# EAGLE library part 6871XX14522_68714414522 (library 68611414422)
WR-FPC 0.50 mm SMT ZIF Horizontal Bottom Contact KIND PROPERTIES Pitch 0.5 mm MATERIAL PROPERTIES Insulator Material LCP Contact Material Phosphor Bronze Contact Plating 100 (µ") Tin over 50 (µ") Nickel Contact Type Stamped Solder Tabs Brass <https://www.we-online.com/catalog/media/o32870v209%20Family_WR-FPC_6871xx14522.jpg> Details see: https://www.we-online.com/catalog/en/FPC_0_5_SMT_ZIF_HORIZONTAL_BOTTOM_CONTACT_6871XX14522/ Updated by Ella Wu 2020-08-26 2020(C) Wurth Elektronik
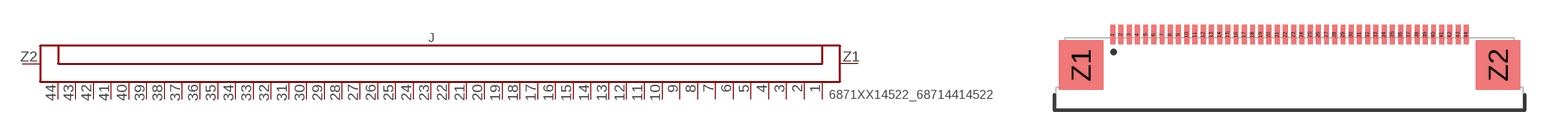
[diagram p30: symbol with the pads of 68714414522; footprint 68714414522]

Designator prefix J

## 6871XX14522_68714414522 (CONTACT-RESISTANCE: 20mOhm; DATASHEET-URL: https://www.we-online.com/catalog/datasheet/68714414522.pdf; IR: 0.5A; L: 28.4mm; PACKAGING: Tape and Reel; PART-NUMBER: 68714414522; PINS: 44; PITCH: 0.5mm; TYPE: Horizontal; VALUE: 68714414522; WORKING-VOLTAGE: 50V(AC))  [68714414522]
1  1  pas
2  2  pas
3  3  pas
4  4  pas
5  5  pas
6  6  pas
7  7  pas
8  8  pas
9  9  pas
10  10  pas
11  11  pas
12  12  pas
13  13  pas
14  14  pas
15  15  pas
16  16  pas
17  17  pas
18  18  pas
19  19  pas
20  20  pas
21  21  pas
22  22  pas
23  23  pas
24  24  pas
25  25  pas
26  26  pas
27  27  pas
28  28  pas
29  29  pas
30  30  pas
31  31  pas
32  32  pas
33  33  pas
34  34  pas
35  35  pas
36  36  pas
37  37  pas
38  38  pas
39  39  pas
40  40  pas
41  41  pas
42  42  pas
43  43  pas
44  44  pas
Z1  Z1  pas
Z2  Z2  pas

## Footprint 68714414522 (pad centres in mm)
WR-FPC 0.50 mm SMT ZIF Horizontal Bottom Contact , 44 Pins
smd 0.3 x 1.2: 1 -10.75,2.35; 2 -10.25,2.35; 3 -9.75,2.35; 4 -9.25,2.35; 5 -8.75,2.35; 6 -8.25,2.35; 7 -7.75,2.35; 8 -7.25,2.35; 9 -6.75,2.35; 10 -6.25,2.35; 11 -5.75,2.35; 12 -5.25,2.35; 13 -4.75,2.35; 14 -4.25,2.35; 15 -3.75,2.35; 16 -3.25,2.35; 17 -2.75,2.35; 18 -2.25,2.35; 19 -1.75,2.35; 20 -1.25,2.35; 21 -0.75,2.35; 22 -0.25,2.35; 23 0.25,2.35; 24 0.75,2.35; 25 1.25,2.35; 26 1.75,2.35; 27 2.25,2.35; 28 2.75,2.35; 29 3.25,2.35; 30 3.75,2.35; 31 4.25,2.35; 32 4.75,2.35; 33 5.25,2.35; 34 5.75,2.35; 35 6.25,2.35; 36 6.75,2.35; 37 7.25,2.35; 38 7.75,2.35; 39 8.25,2.35; 40 8.75,2.35; 41 9.25,2.35; 42 9.75,2.35; 43 10.25,2.35; 44 10.75,2.35
smd 2.7 x 3: Z1 -12.68,0.49; Z2 12.68,0.49